# EAGLE library part SN74LVC08ADRG4 (library SamacSys_Parts)
Quadruple 2-Input Positive-AND Gate Source: Datasheet <http://www.ti.com/lit/gpn/SN74LVC08A>
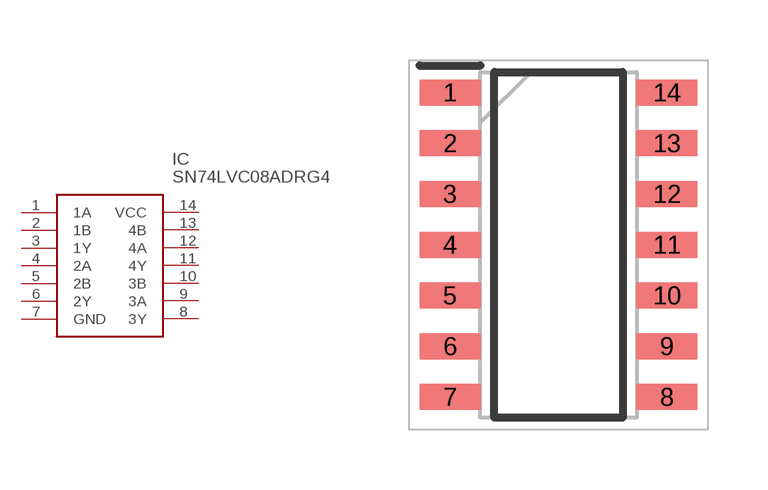
[diagram p1: symbol with the pads of SOIC127P600X175-14N; footprint SOIC127P600X175-14N]

Designator prefix IC

## SN74LVC08ADRG4 (ARROW_PART_NUMBER: SN74LVC08ADRG4; ARROW_PRICE-STOCK: https://www.arrow.com/en/products/sn74lvc08adrg4/texas-instruments; DESCRIPTION: Quadruple 2-Input Positive-AND Gate; HEIGHT: 1.75mm; MANUFACTURER_NAME: Texas Instruments; MANUFACTURER_PART_NUMBER: SN74LVC08ADRG4; MOUSER_PART_NUMBER: 595-SN74LVC08ADRG4; MOUSER_PRICE-STOCK: https://www.mouser.com/Search/Refine.aspx?Keyword=595-SN74LVC08ADRG4)  [SOIC127P600X175-14N]
1  1A
2  1B
3  1Y
4  2A
5  2B
6  2Y
7  GND
8  3Y
9  3A
10  3B
11  4Y
12  4A
13  4B
14  VCC

## Footprint SOIC127P600X175-14N (pad centres in mm)
D(R-PDSO-G14)_1
smd 1.525 x 0.65: 1 -2.712,3.81; 2 -2.712,2.54; 3 -2.712,1.27; 4 -2.712,0; 5 -2.712,-1.27; 6 -2.712,-2.54; 7 -2.712,-3.81; 8 2.712,-3.81; 9 2.712,-2.54; 10 2.712,-1.27; 11 2.712,0; 12 2.712,1.27; 13 2.712,2.54; 14 2.712,3.81